# Altium footprint library RCDQLY.PCBLIB: 125 footprints (part 5 of 8)
Each footprint in its own frame and in the unit in brackets; x right, y up, seen from the top. Pads: shape width x height; smd on the part's side, far side on the other; paste and mask are expansions set on the pad; w line width, h text height; cw(c..) or ccw(c..) is an arc to the next point about the centre after c.
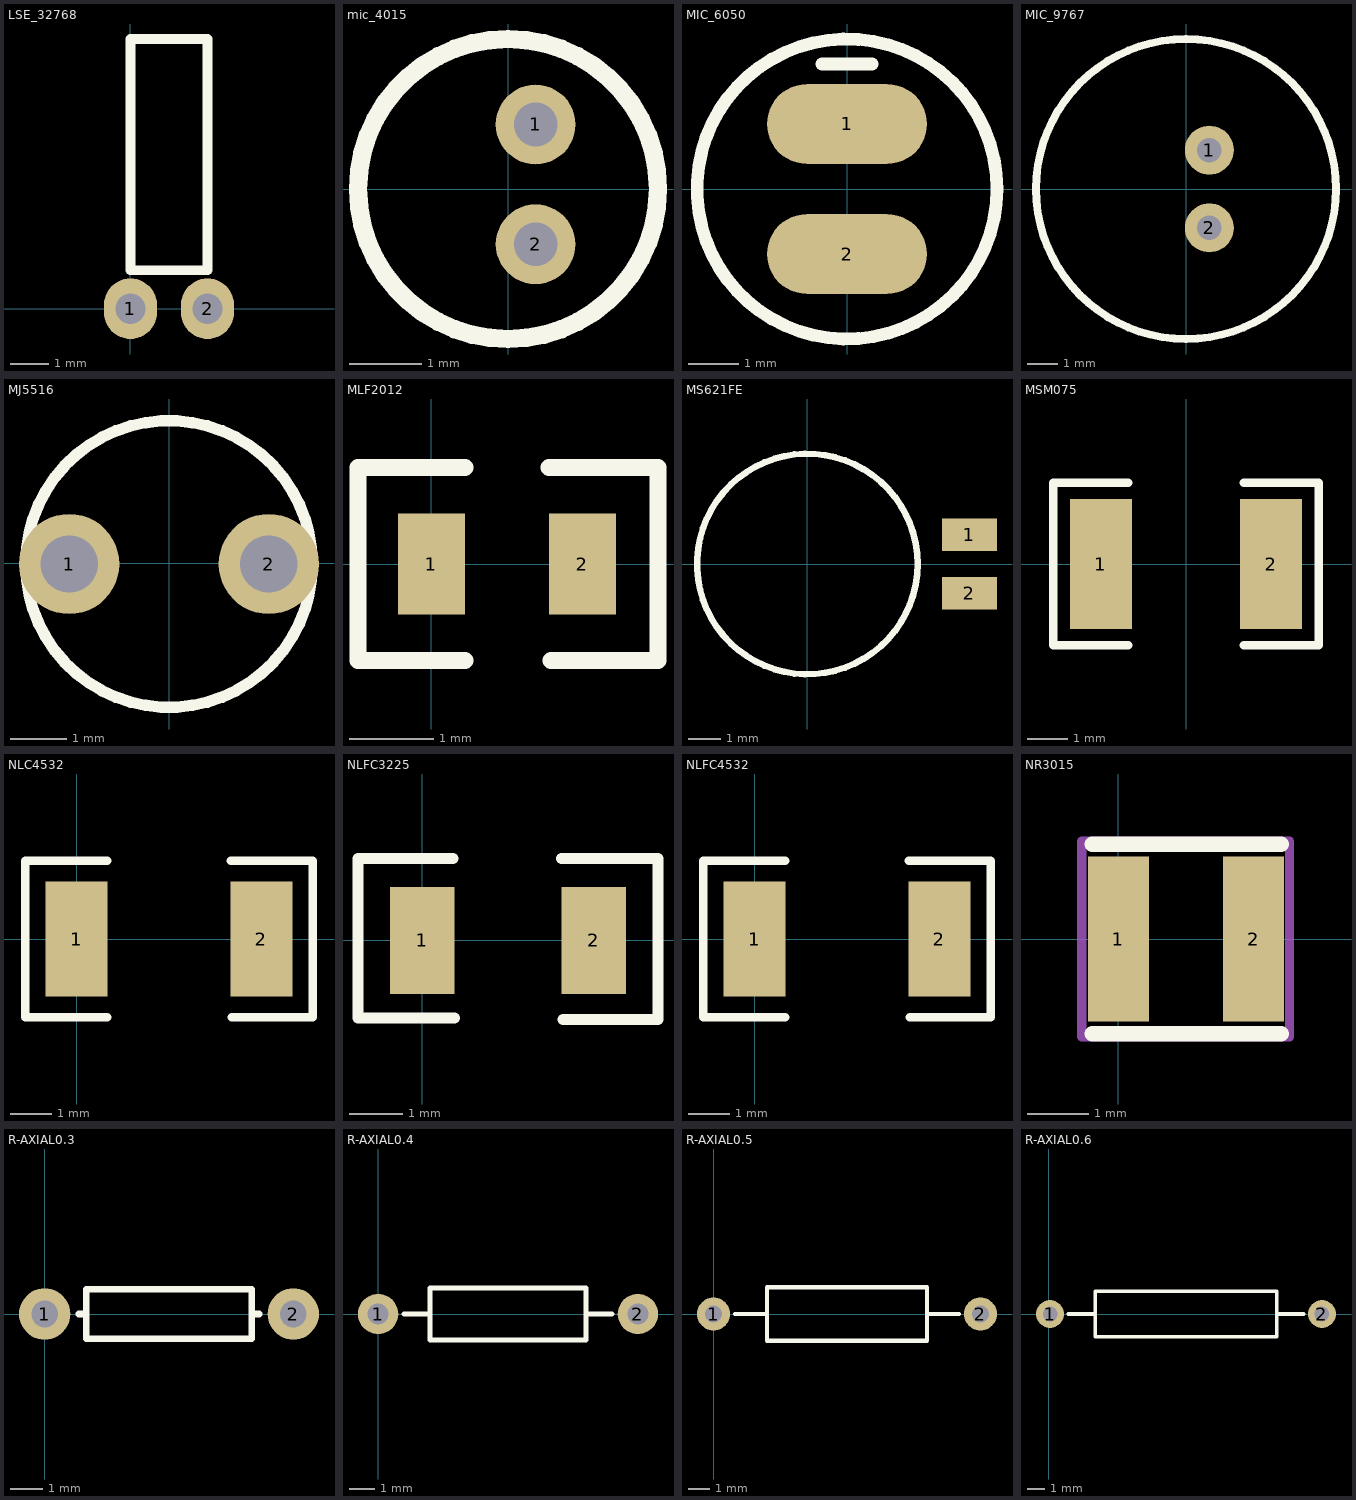
[diagram p4: the footprints below, top view; thin cyan lines are the x and y axes]

## LSE_32768 [mm]
pads (2):
  oval 1.4x1.6 hole 0.8: 1(0,0) 2(2.032,0)
TopOverlay:
  lines w0.254: 0,1.016 2.032,1.016 2.032,7.112 0,7.112 0,1.016

## mic_4015 [mm]
pads (2):
  round 1.1 hole 0.6: 1(0.381,0.889) 2(0.381,-0.762)
TopOverlay:
  circle w0.254: c0,0 r2.067

## MIC_6050 [mm]
pads (2):
  oval 3.2x1.6 smd: 1(0,1.3) 2(0,-1.3)
TopOverlay:
  circle w0.254: c0,0 r3
  lines w0.254: -0.5,2.5 0.5,2.5
3D body: height 5, standoff 0, extent -3,-2.999 3,2.999

## MIC_9767 [mm]
pads (2):
  round 1.6 hole 0.8: 1(0.762,1.27) 2(0.762,-1.27)
TopOverlay:
  circle w0.254: c0,0 r4.9
3D body: height 6.7, standoff 0, extent -4.8,-4.799 4.8,4.799

## MJ5516 [mil]
pads (2):
  round 70 hole 40: 1(-69.69,-0.35) 2(69.68,-0.35)
TopOverlay:
  circle w8: c0,-0.35 r100

## MLF2012 [mm]
pads (2):
  rect 0.8x1.2 smd: 1(0,0) 2(1.8,0)
TopOverlay:
  lines w0.203: 0.4,-1.15 -0.875,-1.15 -0.875,1.15 0.4,1.15 ; 1.4,1.15 2.7,1.15 2.7,-1.15 1.425,-1.15

## MS621FE [mm]
pads (2):
  rect 1.7x1 smd: 1(5,0.9) 2(5,-0.9)
TopOverlay:
  circle w0.2: c0,0 r3.4
3D body: height 0.2, standoff 0, extent 3.4,-1 5.8,-0.4
3D body: height 0.2, standoff 0, extent 3.4,0.4 5.8,1
3D body: height 2.2, standoff 0, extent -3.4,-3.399 3.4,3.399

## MSM075 [mm]
pads (2):
  rect 1.524x3.2 smd: 1(-2.1,0) 2(2.1,0)
TopOverlay:
  lines w0.203: -1.422,-2.007 -3.277,-2.007 -3.277,2.007 -1.422,2.007 ; 1.422,-2.007 3.277,-2.007 3.277,2.007 1.422,2.007

## NLC4532 [mm]
pads (2):
  rect 1.5x2.8 smd: 1(0,0) 2(4.5,0)
TopOverlay:
  lines w0.203: 0.75,-1.9 -1.25,-1.9 -1.25,1.9 0.75,1.9 ; 3.75,1.9 5.75,1.9 5.75,-1.9 3.775,-1.9

## NLFC3225 [mm]
pads (2):
  rect 1.2x2 smd: 1(0,0) 2(3.2,0)
TopOverlay:
  lines w0.203: 0.575,1.525 -1.199,1.525 -1.199,-1.45 0.6,-1.45 ; 2.6,1.525 4.399,1.525 4.399,-1.475 2.625,-1.475

## NLFC4532 [mm]
pads (2):
  rect 1.5x2.8 smd: 1(0,0) 2(4.5,0)
TopOverlay:
  lines w0.203: 0.75,-1.9 -1.25,-1.9 -1.25,1.9 0.75,1.9 ; 3.75,1.9 5.75,1.9 5.75,-1.9 3.775,-1.9

## NR3015 [mm]
pads (2):
  rect 1x2.7 smd: 1(0,0) 2(2.21,0)
TopOverlay:
  lines w0.254: -0.432,-1.549 2.667,-1.549 ; -0.432,1.549 2.667,1.549
Mechanical13:
  lines w0.152: -0.6,-1.6 -0.6,1.6 2.8,1.6 2.8,-1.6 -0.6,-1.6
  text ".Designator" at -0.254,-0.254 h0.51
Mechanical15:
  lines w0.152: -0.6,-1.6 2.8,-1.6 2.8,1.6 -0.6,1.6 -0.6,-1.6
  text ".Comment" at -0.254,-0.254 h0.51
3D body: height 2, standoff 0, extent -0.6,-1.6 2.8,1.6

## R-AXIAL0.3 [mil]
pads (2):
  round 62 hole 32: 1(0,0) 2(300,0)
TopOverlay:
  lines w8: 41,0 50,0 ; 259,0 250,0 ; 250,0 250,30 50,30 50,-30 250,-30 250,0

## R-AXIAL0.4 [mil]
pads (2):
  round 62 hole 32: 1(0,0) 2(400,0)
TopOverlay:
  lines w8: 40,0 80,0 ; 320,0 360,0 ; 80,-40 80,40 320,40 320,-40 80,-40

## R-AXIAL0.5 [mil]
pads (2):
  round 62 hole 32: 1(0,0) 2(500,0)
TopOverlay:
  lines w8: 40,0 100,0 ; 400,0 460,0 ; 100,-50 100,50 400,50 400,-50 100,-50

## R-AXIAL0.6 [mil]
pads (2):
  round 62 hole 32: 1(2.5,0) 2(602.5,0)
TopOverlay:
  lines w8: 42.5,0 102.5,0 ; 502.5,0 562.5,0 ; 102.5,-50 502.5,-50 502.5,50 102.5,50 102.5,-50